# Altium schematic symbol library Schlib1.SchLib: 12 symbols
Pins are listed as number, name and electrical type; pins without a type are passive.

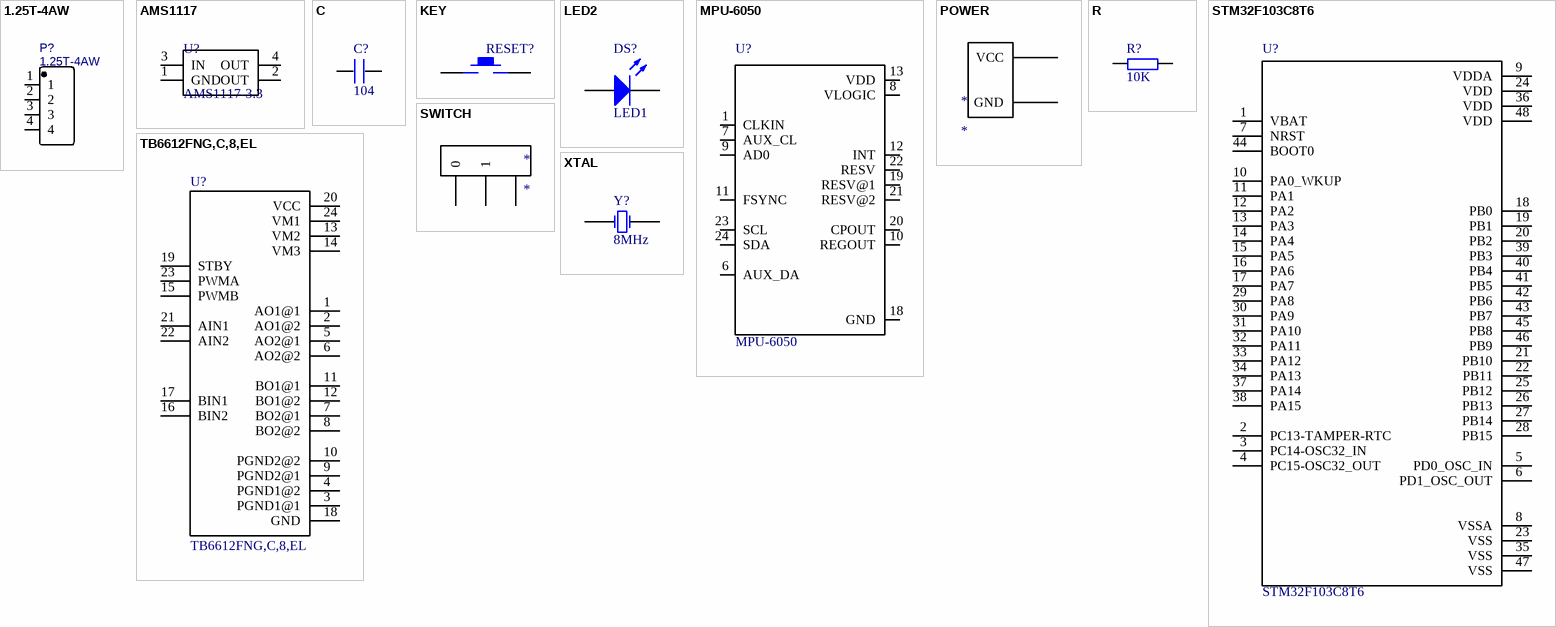
[diagram p0: symbols 1.25T-4AW to XTAL]

## 1.25T-4AW
designator P?
BOM_Manufacturer: BOOMELE; spicePre: X; BOM_Supplier: LCSC; BOM_Manufacturer Part: 1.25T-4AW; BOM_Supplier Part: C14939
footprint 1.25T-4AW
footprint *1.25T-4AW
pins: 1, 2, 3, 4

## AMS1117
designator U?, comment AMS1117-3.3
footprint *AMS1117
pins: 1 GND, 2 OUT, 3 IN, 4 OUT

## C
designator C?, comment 104
footprint *0805
pins: 1, 2

## KEY
designator RESET?  (value not drawn)
footprint *KEY
pins: 1, 2

## LED2
designator DS?, comment LED1
Typical RED, GREEN, YELLOW, AMBER GaAs LED; Published: 8-Jun-2000; LatestRevisionDate: 17-Jul-2002; LatestRevisionNote: Re-released for DXP Platform.; PackageDocument: Feb-2002; PackageReference: 3.2X1.6X1.1; Publisher: Altium Limited
footprint *0805
pins: 1 A, 2 K

## MPU-6050
designator U?
3-axis gyroscope, 3-axis accelerometer in a 4x4x0.9 housing; MF: TDK InvenSense; Digi-Key_Part_Number: 1428-1007-1-ND; Package: QFN-24 InvenSense; Digi-Key_Purchase_URL: https://www.digikey.com.cn/product-detail/zh/tdk-invensense/MPU-6050/1428-1007-1-ND/4038010?utm_source=snapeda&utm_medium=aggregator&utm_campaign=symbol; SnapEDA_Link: https://www.snapeda.com/parts/MPU-6050/TDK%20InvenSense/view-part/?ref=snap; MP: MPU-6050; Value: *
footprint *QFN50P400X400X95-24N
pins: 1 CLKIN, 6 AUX_DA, 7 AUX_CL, 8 VLOGIC, 9 AD0, 10 REGOUT, 11 FSYNC, 12 INT, 13 VDD, 18 GND, 19 RESV@1, 20 CPOUT, 21 RESV@2, 22 RESV, 23 SCL, 24 SDA

## POWER
designator *
footprint *POWER
pins: 0 VCC, 1 GND

## R
designator R?, comment 10K
footprint *0805
pins: 1, 2

## STM32F103C8T6
designator U?
Mainstream Performance line, ARM Cortex-M3 MCU with 64 Kbytes Flash, 72 MHz CPU, motor control, USB and CAN; MF: STMicroelectronics; MP: STM32F103C8T6; Digi-Key_Part_Number: *; Package: LQFP-48 STMicroelectronics; SnapEDA_Link: https://www.snapeda.com/parts/STM32F103C8T6/STMicroelectronics/view-part/?ref=snap; Digi-Key_Purchase_URL: *; Value: *
footprint *QFP50P900X900X160-48N
pins: 1 VBAT, 2 PC13-TAMPER-RTC, 3 PC14-OSC32_IN, 4 PC15-OSC32_OUT, 5 PD0_OSC_IN, 6 PD1_OSC_OUT, 7 NRST, 8 VSSA, 9 VDDA, 10 PA0_WKUP, 11 PA1, 12 PA2, 13 PA3, 14 PA4, 15 PA5, 16 PA6, 17 PA7, 18 PB0, 19 PB1, 20 PB2, 21 PB10, 22 PB11, 23 VSS, 24 VDD, 25 PB12, 26 PB13, 27 PB14, 28 PB15, 29 PA8, 30 PA9, 31 PA10, 32 PA11, 33 PA12, 34 PA13, 35 VSS, 36 VDD, 37 PA14, 38 PA15, 39 PB3, 40 PB4, 41 PB5, 42 PB6, 43 PB7, 44 BOOT0, 45 PB8, 46 PB9, 47 VSS, 48 VDD

## SWITCH
designator *
footprint *SWITCH; pin to pad 2>none
pins: 0, 1, 2

## TB6612FNG,C,8,EL
designator U?
Stepping Motor Driver Ic Unipolor Copper Wire 8; MF: Toshiba; MP: TB6612FNG,C,8,EL; Digi-Key_Part_Number: TB6612FNGC8ELCT-ND; Package: SSOP-24 Toshiba; SnapEDA_Link: https://www.snapeda.com/parts/TB6612FNG%2CC%2C8%2CEL/Toshiba%20Semiconductor%20and%20Storage/view-part/?ref=snap; Digi-Key_Purchase_URL: https://www.digikey.com.cn/product-detail/zh/toshiba-semiconductor-and-storage/TB6612FNG,C,8,EL/TB6612FNGC8ELCT-ND/1730134?utm_source=snapeda&utm_medium=aggregator&utm_campaign=symbol; Value: *
footprint *SOP65P760X160-24N
pins: 1 AO1@1, 2 AO1@2, 3 PGND1@1, 4 PGND1@2, 5 AO2@1, 6 AO2@2, 7 BO2@1, 8 BO2@2, 9 PGND2@1, 10 PGND2@2, 11 BO1@1, 12 BO1@2, 13 VM2, 14 VM3, 15 PWMB, 16 BIN2, 17 BIN1, 18 GND, 19 STBY, 20 VCC, 21 AIN1, 22 AIN2, 23 PWMA, 24 VM1

## XTAL
designator Y?, comment 8MHz
Crystal Oscillator; Published: 8-Jun-2000; LatestRevisionDate: 17-Jul-2002; LatestRevisionNote: Re-released for DXP Platform.; Publisher: Altium Limited
footprint *XTAL
pins: 0 OSC1, 1 OSC2